# Altium schematic symbol library MEM2052-00-195-00-A.SchLib: 1 symbol
Pins are listed as number, name and electrical type; pins without a type are passive.

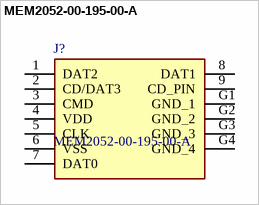
[diagram p0: symbol MEM2052-00-195-00-A]

## MEM2052-00-195-00-A
designator J?
9 (8 + 1) Position Card Connector Secure Digital - microSD Surface Mount, Right Angle Gold; Manufacturer_Name: GCT (GLOBAL CONNECTOR TECHNOLOGY); Geometry.Height: 2.2mm; Manufacturer_Part_Number: MEM2052-00-195-00-A; Mouser Part Number: 640-MEM20520019500A; Mouser Price/Stock: https://www.mouser.co.uk/ProductDetail/GCT/MEM2052-00-195-00-A?qs=Jm2GQyTW%2Fbh7Ze6LKWKWwA%3D%3D; Arrow Part Number: *; Arrow Price/Stock: *; Datasheet Link: https://gct.co/files/drawings/MEM2052.pdf
footprint MEM20520019500A
pins: 1 DAT2, 2 CD/DAT3, 3 CMD, 4 VDD, 5 CLK, 6 VSS, 7 DAT0, 8 DAT1, 9 CD_PIN, G1 GND_1, G2 GND_2, G3 GND_3, G4 GND_4